# Altium schematic symbol library Header.SchLib: 2 symbols
Pins are listed as number, name and electrical type; pins without a type are passive.

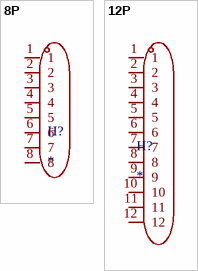
[diagram p0: symbols 8P to 12P]

## 8P
designator H?
footprint 8P
pins: 1, 2, 3, 4, 5, 6, 7, 8

## 12P
designator H?
footprint 20P
pins: 1, 2, 3, 4, 5, 6, 7, 8, 9, 10, 11, 12